# EAGLE library part INNOLUX_N101ICE-G62_LCD (library m_opto)
Innolux N101ICE-G62 LCD N101ICE-G61 is a 10.1” (10.1” diagonal) TFT Liquid Crystal Display module with LED Backlight unit and 39 pins MIPI interface. This module supports 1280 x 800 WXGA mode. ￼ General Specifications Item Specification Unit Note Screen Size 10.1 inch(Diagonal) - - Driver Element a-si TFT active matrix - - ￼ ￼ Pixel Number 1280 x R.G.B. x 800 pixel - Pixel Pitch 0.1695 (H) x 0.0565 (V) mm - Pixel Arrangement RGB vertical stripe - - Display Colors 16,777,216 (8bit color depth) color - Transmissive Mode Normally black - - Surface Treatment Hard coating (3H), Glare - - Luminance, White 350 Cd/m2 - Interface MIPI 4lane - - Power Consumption Total 3.67 W (Max.) ( panel 1.15 W (Max.), BL 2.52 W (Max.)) - - ￼ Connector: HIROSE FH26W-39S-0.3SHW Added 2016-07-16
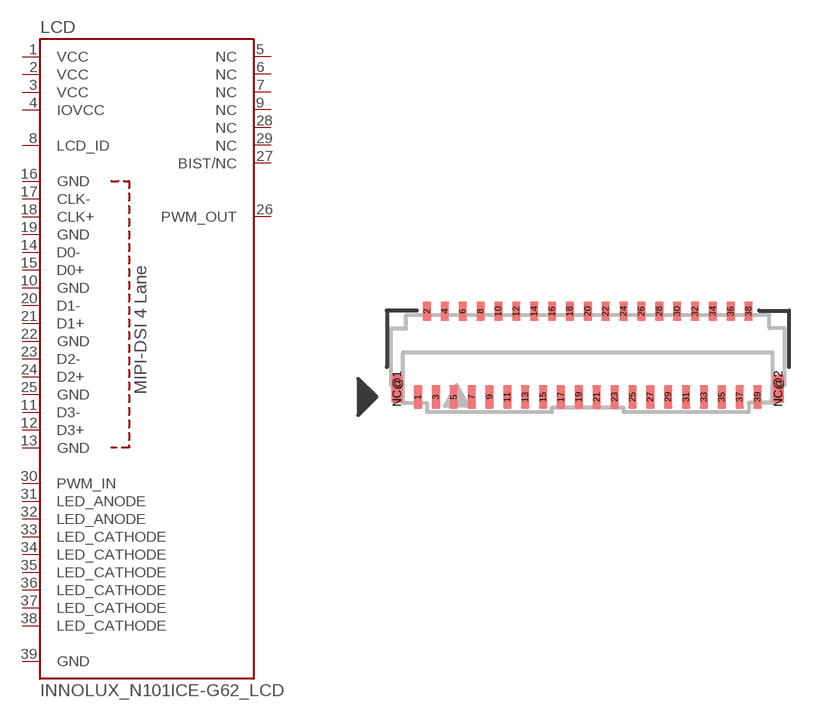
[diagram p3: symbol with the pads of HIROSE_FH26W-39S-0.3SHW; footprint HIROSE_FH26W-39S-0.3SHW]

Designator prefix LCD

## INNOLUX_N101ICE-G62_LCDHIROSE_FH26W-39S (MANUF: Innolux; PARTNUM: N101ICE-G62)  [HIROSE_FH26W-39S-0.3SHW]
1  VCC  pas
2  VCC  pas
3  VCC  pas
4  IOVCC  pas
5  NC  pas
6  NC  pas
7  NC  pas
8  LCD_ID  pas
9  NC  pas
10  GND  pas
11  D3-  pas
12  D3+  pas
13  GND  pas
14  D0-  pas
15  D0+  pas
16  GND  pas
17  CLK-  pas
18  CLK+  pas
19  GND  pas
20  D1-  pas
21  D1+  pas
22  GND  pas
23  D2-  pas
24  D2+  pas
25  GND  pas
26  PWM_OUT  pas
27  BIST/NC  pas
28  NC  pas
29  NC  pas
30  PWM_IN  pas
31  LED_ANODE  pas
32  LED_ANODE  pas
33  LED_CATHODE  pas
34  LED_CATHODE  pas
35  LED_CATHODE  pas
36  LED_CATHODE  pas
37  LED_CATHODE  pas
38  LED_CATHODE  pas
39  GND  pas

## Footprint HIROSE_FH26W-39S-0.3SHW (pad centres in mm)
Hirose FH26 Series 0.3mm Pitch, 1.0 mm Height FPC Connector, 39 conductor Low-profile 0.3 mm pitch FPC connector, SMT with 0.6mm mounting pitch. Rotating one-touch ZIF mechanism. Footprint based on Hirose FH26 series datasheet dated July 1, 2016. Added 2016-07-16.
smd 0.3 x 0.8: 1 -5.7,-1.4; 3 -5.1,-1.4; 5 -4.5,-1.4; 7 -3.9,-1.4; 9 -3.3,-1.4; 11 -2.7,-1.4; 13 -2.1,-1.4; 15 -1.5,-1.4; 17 -0.9,-1.4; 19 -0.3,-1.4; 21 0.3,-1.4; 23 0.9,-1.4; 25 1.5,-1.4; 27 2.1,-1.4; 29 2.7,-1.4; 31 3.3,-1.4; 33 3.9,-1.4; 35 4.5,-1.4; 37 5.1,-1.4; 39 5.7,-1.4
smd 0.3 x 0.65: 2 -5.4,1.475; 4 -4.8,1.475; 6 -4.2,1.475; 8 -3.6,1.475; 10 -3,1.475; 12 -2.4,1.475; 14 -1.8,1.475; 16 -1.2,1.475; 18 -0.6,1.475; 20 0,1.475; 22 0.6,1.475; 24 1.2,1.475; 26 1.8,1.475; 28 2.4,1.475; 30 3,1.475; 32 3.6,1.475; 34 4.2,1.475; 36 4.8,1.475; 38 5.4,1.475
smd 0.4 x 0.95: NC@1 -6.4,-1.125; NC@2 6.4,-1.125